# EAGLE library part STM8L152K4T6 (library STM8L152K4T6)
STM8L152K4T6, 8 bit STM8 Microcontroller 16MHz 1 kB, 16 kB Flash, 2 kB RAM, I2C 32-Pin LQFP Source: Datasheet <http://www.st.com/st-web-ui/static/active/en/resource/technical/document/datasheet/CD00240181.pdf>
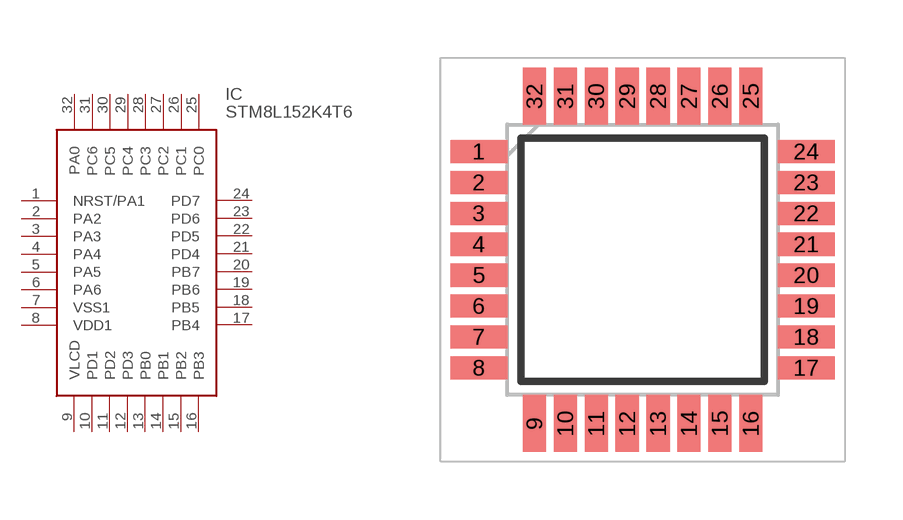
[diagram p0: symbol with the pads of QFP80P900X900X160-32N; footprint QFP80P900X900X160-32N]

Designator prefix IC

## STM8L152K4T6 (Arrow_Part_Number: STM8L152K4T6; Arrow_Price-Stock: https://www.arrow.com/en/products/stm8l152k4t6/stmicroelectronics; Description: STM8L152K4T6, 8 bit STM8 Microcontroller 16MHz 1 kB, 16 kB Flash, 2 kB RAM, I2C 32-Pin LQFP; Height: 1.6mm; Manufacturer_Name: STMicroelectronics; Manufacturer_Part_Number: STM8L152K4T6; Mouser_Part_Number: 511-STM8L152K4T6; Mouser_Price-Stock: https://www.mouser.co.uk/ProductDetail/STMicroelectronics/STM8L152K4T6?qs=H8t2elxe2QfRIfda8XwgVw%3D%3D)  [QFP80P900X900X160-32N]
1  NRST/PA1
2  PA2
3  PA3
4  PA4
5  PA5
6  PA6
7  VSS1
8  VDD1
9  VLCD
10  PD1
11  PD2
12  PD3
13  PB0
14  PB1
15  PB2
16  PB3
17  PB4
18  PB5
19  PB6
20  PB7
21  PD4
22  PD5
23  PD6
24  PD7
25  PC0
26  PC1
27  PC2
28  PC3
29  PC4
30  PC5
31  PC6
32  PA0

## Footprint QFP80P900X900X160-32N (pad centres in mm)
LQFP - 32-pin, 7 x 7 mm
smd 1.475 x 0.6: 1 -4.238,2.8; 2 -4.238,2; 3 -4.238,1.2; 4 -4.238,0.4; 5 -4.238,-0.4; 6 -4.238,-1.2; 7 -4.238,-2; 8 -4.238,-2.8; 17 4.238,-2.8; 18 4.238,-2; 19 4.238,-1.2; 20 4.238,-0.4; 21 4.238,0.4; 22 4.238,1.2; 23 4.238,2; 24 4.238,2.8
smd 0.6 x 1.475: 9 -2.8,-4.238; 10 -2,-4.238; 11 -1.2,-4.238; 12 -0.4,-4.238; 13 0.4,-4.238; 14 1.2,-4.238; 15 2,-4.238; 16 2.8,-4.238; 25 2.8,4.238; 26 2,4.238; 27 1.2,4.238; 28 0.4,4.238; 29 -0.4,4.238; 30 -1.2,4.238; 31 -2,4.238; 32 -2.8,4.238